# Altium schematic symbol library UltraZohm_ADC.SCHLIB: 27 symbols
Pins are listed as number, name and electrical type; pins without a type are passive.

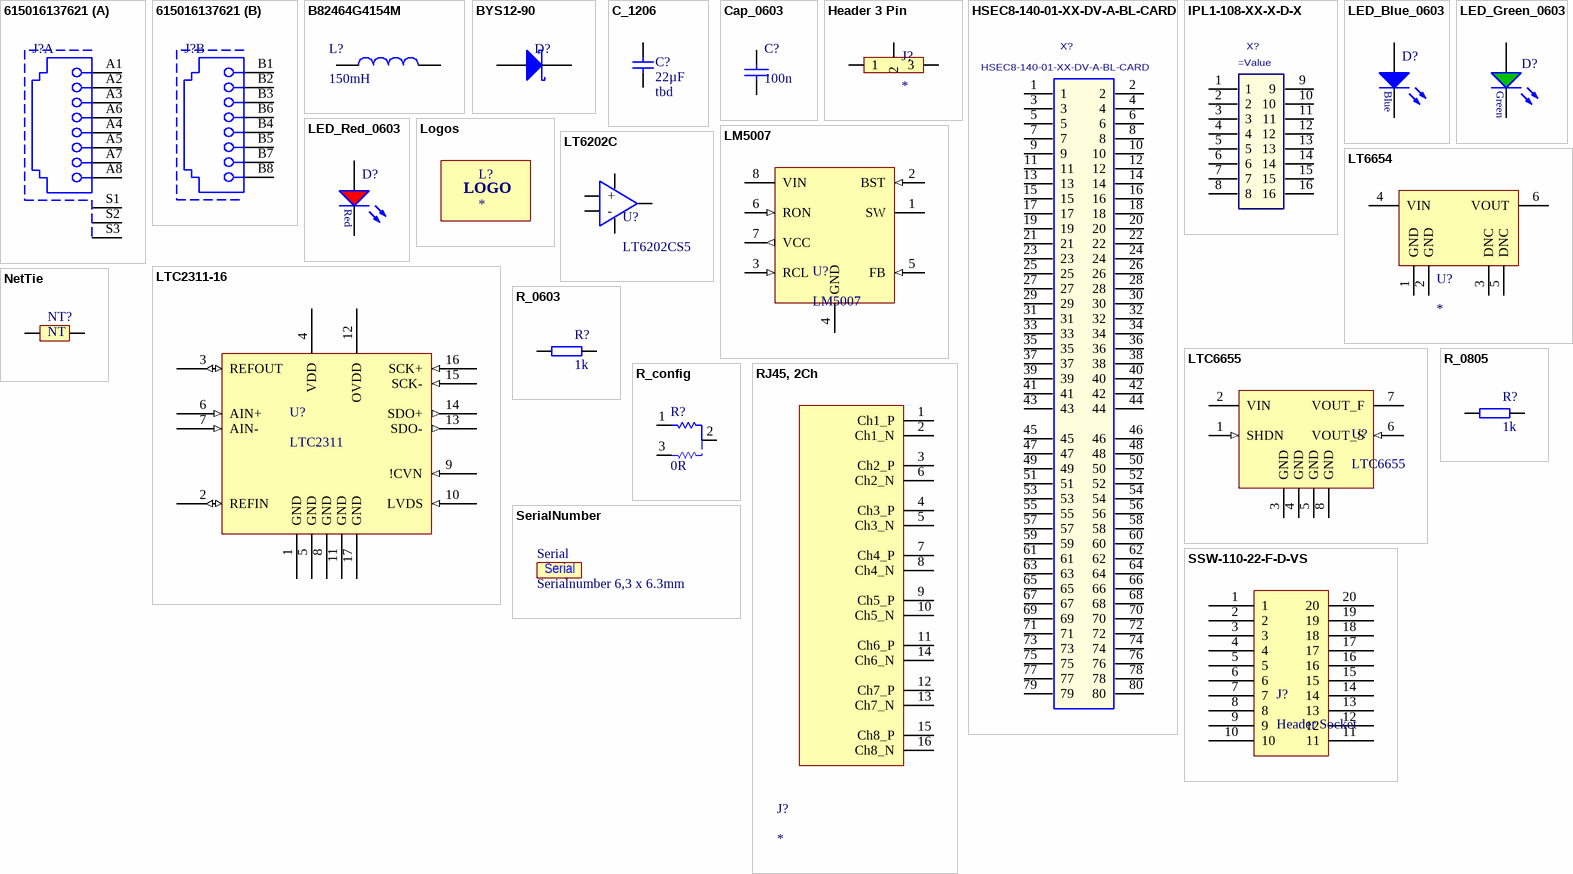
[diagram p0: symbols 615016137621 to SSW-110-22-F-D-VS]

## 615016137621
designator J?
Modular Jack WR-MJ, Tab Down, Shielded, Dual Port, Horizontal Entry, THT, 8P8C; MPN: 615016137621; MF: Wurth Elektronik; Port: 1x2; Compliance: Lead free / RoHS; Rated Current: 1.5 A; Working Voltage: 120 VAC; Withstanding Voltage: 1000 VAC; Contact Resistance: 20 mOhm; ComponentLink1Description: Manufacturer; ComponentLink1URL: http://www.we-online.de; ComponentLink2Description: Datasheet; ComponentLink2URL: https://katalog.we-online.de/em/datasheet/615016137621.pdf; Published Date: July 2018; Pin Number: 8P8C; Operating Temperature: -40 to 85 degC; Mounting Technology: THT; Packaging: Tray; Entrance: Horizontal; Supplier 1: Farnell; Supplier 2: Mouser; Supplier 3: Digi-Key; Supplier Part Number 1: 1841174; Supplier Part Number 2: 710-615016137621; Supplier Part Number 3: 732-2744-ND
footprint 615016137621 (Modular Jack Horizontal Shielded Dual Port 8P8C Tab Down)
part A pins: A1, A2, A3, A4, A5, A6, A7, A8, S1, S2, S3
part B pins: B1, B2, B3, B4, B5, B6, B7, B8

## B82464G4154M
designator L?, comment 150mH
SMT power Inductor, 150uH, 320m DRC; MPN: B82464G4154M; MF: EPCOS / TDK; Rated Current: 0.85 A; Supplier 1: Mouser; Supplier Part Number 1: 871-B82464G4154M; Value: 150mH; DCR: 320m
footprint SMT_inductor_1050_Performance (SMD Shielded Power Inductor, 2-leads, body 10.3x10.5mm)
pins: 1, 2

## BYS12-90
designator D?
Schottky Diode; MPN: BYS12-90-E3/TR3; MF: Vishay; Forward Voltage: 750mV; Reverse Voltage: 90V; Rated Current: 1.5A; Package: DO-214AC; Supplier 1: Farnell; Supplier 2: Mouser; Supplier 3: Digi-Key; Supplier Part Number 1: 2889144; Supplier Part Number 2: 625-BYS12-90-E3/TR3; Supplier Part Number 3: BYS12-90-E3/GICT-ND
footprint DIOM4227X23N (Molded Diode, 2-Leads, Body 4,25x2,67mm, IPC Medium Density)
pins: 1 K, 2 A

## C_1206
designator C?, comment 22µF  Voltage: tbd
Capacitor 1206; Tolerance: 10%; Package: 1206; Value: 22µF; Created: 2018_06_25_AGeiger; Supplier 1: tbd; Supplier Part Number 1: tbd; MF: tbd; MPN: tbd; Dielectric: tbd
footprint C_1206
pins: 1, 2

## Cap_0603
designator C?, comment 100n
Value: 100n; MF: *; MPN: *; Supplier 1: *; Supplier 2: *; Supplier Part Number 1: *; Supplier Part Number 2: *; Voltage: *
footprint CAPC1608X07N (Chip Capacitor, 2-Leads, Body 1,60x0,80mm, IPC Medium Density)
pins: 1, 2

## Header 3 Pin
designator J?
footprint Header 3 Pin
pins: 1, 2, 3

## HSEC8-140-01-XX-DV-A-BL-CARD
designator X?
Mating Card Layout for HSEC8-140-01-XX-DV-A-BL; Manufacturer: SAMTEC; Created: 2018_04_23_AGeiger; Value: HSEC8-140-01-XX-DV-A-BL-CARD
footprint HSEC8-140-01-XX-DV-A-BL-CARD
pins: 1, 2, 3, 4, 5, 6, 7, 8, 9, 10, 11, 12, 13, 14, 15, 16, 17, 18, 19, 20, 21, 22, 23, 24, 25, 26, 27, 28, 29, 30, 31, 32, 33, 34, 35, 36, 37, 38, 39, 40, 41, 42, 43, 44, 45, 46, 47, 48, 49, 50, 51, 52, 53, 54, 55, 56, 57, 58, 59, 60, 61, 62, 63, 64, 65, 66, 67, 68, 69, 70, 71, 72, 73, 74, 75, 76, 77, 78, 79, 80

## IPL1-108-XX-X-D-X
designator X?
2.54mm Double Row Terminal Assembly; MF: SAMTEC; Created: 2018_09_17_AGeiger; Value: =MPN
footprint IPL1-108-01-L-D-RA-K
pins: 1, 2, 3, 4, 5, 6, 7, 8, 9, 10, 11, 12, 13, 14, 15, 16

## LED_Blue_0603
designator D?, comment 150060BS75000  (value not drawn)
WL-SMCW SMD Mono-color Chip LED Waterclear, size 0603, Blue, 3.2 V, 140°; Forward Voltage: 3.2 V; Luminous Intensity: 145 mcd; Peak Wavelength: 465 nm; Dominant Wavelength: 470 nm; MF: Wuerth Elektronik; Published Date: Sep. 2017; ComponentLink1Description: Manufacturer; ComponentLink1URL: http://www.we-online.de; ComponentLink2Description: Datasheet; ComponentLink2URL: http://katalog.we-online.com/led/datasheet/150060BS75000.pdf; MPN: 150060BS75000; Size: 0603; Viewing Angle: 140°; Emitting Color: Blue; Value: 150060BS75000; Package: 0603; Created: 2018_09_06_AGeiger; Supplier 1: Farnell; Supplier Part Number 1: 2322069; Supplier 2: Mouser; Supplier Part Number 2: 710-150060BS75000; Supplier 3: Digi-Key; Supplier Part Number 3: 732-4966-1-ND
footprint WL-SMCW_0603 (SMD Mono-color Chip LED, body 1.6x0.8mm)
pins: 1 K, 2 A

## LED_Green_0603
designator D?, comment 150060GS75000  (value not drawn)
WL-SMCW SMD Mono-color Chip LED Waterclear, size 0603, Green, 3.2 V, 140°; Forward Voltage: 3.2 V; Luminous Intensity: 430 mcd; Peak Wavelength: 515 nm; Dominant Wavelength: 520 nm; MF: Wuerth Elektronik; Published Date: Sep. 2017; ComponentLink1Description: Manufacturer; ComponentLink1URL: http://www.we-online.de; ComponentLink2Description: Datasheet; ComponentLink2URL: http://katalog.we-online.com/led/datasheet/150060GS75000.pdf; MPN: 150060GS75000; Size: 0603; Viewing Angle: 140°; Emitting Color: Green; Value: 150060GS75000; Package: 0603; Created: 2018_09_06_AGeiger; Supplier 1: Farnell; Supplier Part Number 1: 2322070; Supplier 2: Mouser; Supplier Part Number 2: 710-150060GS75000; Supplier 3: Digi-Key; Supplier Part Number 3: 732-4971-1-ND
footprint WL-SMCW_0603 (SMD Mono-color Chip LED, body 1.6x0.8mm)
pins: 1 K, 2 A

## LED_Red_0603
designator D?, comment 150060RS75000  (value not drawn)
WL-SMCW SMD Mono-color Chip LED Waterclear, size 0603, Red, 2 V, 140°; Forward Voltage: 2 V; Luminous Intensity: 250 mcd; Peak Wavelength: 630 nm; Dominant Wavelength: 625 nm; MF: Wuerth Elektronik; Published Date: Sep. 2017; ComponentLink1Description: Manufacturer; ComponentLink1URL: http://www.we-online.de; ComponentLink2Description: Datasheet; ComponentLink2URL: http://katalog.we-online.com/led/datasheet/150060RS75000.pdf; MPN: 150060RS75000; Size: 0603; Viewing Angle: 140°; Emitting Color: Red; Value: 150060RS75000; Package: 0603; Created: 2018_09_06_AGeiger; Supplier 1: Farnell; Supplier Part Number 1: 2322071; Supplier 2: Mouser; Supplier Part Number 2: 710-150060RS75000; Supplier 3: Digi-Key; Supplier Part Number 3: 732-4978-1-ND
footprint WL-SMCW_0603 (SMD Mono-color Chip LED, body 1.6x0.8mm)
pins: 1 K, 2 A

## LM5007
designator U?
Buck Converter, 9-75Vin, 2.5-73Vout; MPN: LM5007MM/NOPB; MF: Texas Instruments; Supplier 1: Farnell; Supplier 2: Mouser; Supplier 3: Digi-Key; Supplier Part Number 1: 9779345; Supplier Part Number 2: 926-LM5007MM/NOPB; Supplier Part Number 3: LM5007MM/NOPBCT-ND; Package: VSSOP-8
footprint TSOP65P490X110-8N (TSOP, 8-Leads, Body 3,00x3,00mm, Pitch 0,65mm, IPC Medium Density)
pins: 1 SW (power), 2 BST (in), 3 RCL (in), 4 GND (power), 5 FB (in), 6 RON (in), 7 VCC (out), 8 VIN (power)

## Logos
designator L?
footprint Logo_Partners_1 (THN, TUM and USACH Logo)
footprint Logo_Partners_2 (USACH, THN and TUM Logo)
text: LOGO

## LT6202C
designator U?, comment LT6202CS5
Single Ch, 100MHz, Low Power OpAmp; MPN: LT6202CS5#TRMPBF; MF: Linear Technology/Analog Devices; Value: *; Supplier 1: Mouser; Supplier 2: Digi-Key; Supplier Part Number 1: 584-LT6202CS5#TRMPBF; Supplier Part Number 2: LT6202CS5#TRMPBFCT-ND; Package: SOT-5
footprint SOT95P250X110-5N (SOT23, 5-Leads, Body 2,92x2,50mm, Pitch 0,95mm, IPC Medium Density)
pins: 1, 2, 3 +, 4 -, 5

## LT6654
designator U?
MPN: LT6654AIS6-5#TRMPBF; MF: Analog Devices; Package: TSOT-23-6; Supplier 1: Farnell; Supplier 2: Mouser; Supplier 3: Digi-Key; Supplier Part Number 1: 2761960; Supplier Part Number 2: 584-6654AIS65TRMPBF; Supplier Part Number 3: LT6654AIS6-5#TRMPBFCT-ND
footprint SOT95P280X100-6N (SOT23, 6-Leads, Body 2,90x2,80mm, Pitch 0,95mm, IPC Medium Density)
pins: 1 GND (power), 2 GND (power), 3 DNC, 4 VIN (power), 5 DNC, 6 VOUT (power)

## LTC2311-16
designator U?, comment LTC2311
16 Bit SAR ADC, 5MSps; MPN: LTC2311CMSE-16#PBF; MF: Analog Devices; Package: MSOP-16; Supplier 1: Mouser; Supplier 2: Digi-Key; Supplier Part Number 1: 584-C2311CMSE-16PBF; Supplier Part Number 2: LTC2311CMSE-16#PBF-ND
footprint LTC2311-16
pins: 1 GND (power), 2 REFIN (io), 3 REFOUT (io), 4 VDD (power), 5 GND (power), 6 AIN+ (in), 7 AIN- (in), 8 GND (power), 9 !CVN (in), 10 LVDS (in), 11 GND (power), 12 OVDD (power), 13 SDO- (out), 14 SDO+ (out), 15 SCK- (in), 16 SCK+ (in), 17 GND (power)

## LTC6655
designator U?
Precision Reference, 1.25/2/2.5/3/3.3/4/5V
footprint TSOP65P490X110-8N (TSOP, 8-Leads, Body 3,00x3,00mm, Pitch 0,65mm, IPC Medium Density)
pins: 1 SHDN (in), 2 VIN (power), 3 GND (power), 4 GND (power), 5 GND (power), 6 VOUT_S (in), 7 VOUT_F (power), 8 GND (power)

## NetTie
designator NT?  (net tie, no BOM)
footprint NetTie
pins: 1, 2
text: NT

## R_0603
designator R?, comment 1k
Value: 1k; MF: *; MPN: *; Supplier 1: *; Supplier Part Number 1: *
footprint RESC1608X06N (Chip Resistor, 2-Leads, Body 1,60x0,80mm, IPC Medium Density)
pins: 1, 2

## R_0805
designator R?, comment 1k
Case_EIA: 0805; Value: 1k
footprint RESC0805 (Chip Resistor, 2-Leads, Body 2,00x1,25mm, IPC Medium Density)
pins: 1, 2

## R_config
designator R?, comment 0R
Solder resistor/jumper between pads 1 and 2 for standard function. Solder resistor between pads 2 and 3 for alternative function; Created: 2018_09_04_AGeiger; Value: 0R; Package: 0603
footprint 0603_Config (0603 3-Pin Config Footprint)
pins: 1, 2, 3

## RJ45, 2Ch
designator J?
footprint RJ45, 2CH
pins: 1 Ch1_P, 2 Ch1_N, 3 Ch2_P, 4 Ch3_P, 5 Ch3_N, 6 Ch2_N, 7 Ch4_P, 8 Ch4_N, 9 Ch5_P, 10 Ch5_N, 11 Ch6_P, 12 Ch7_P, 13 Ch7_N, 14 Ch6_N, 15 Ch8_P, 16 Ch8_N

## SerialNumber
designator Serial, comment Serialnumber 6,3 x 6.3mm  (no BOM)
Created: 2018_09_18_AGeiger; Value: Serialnumber 6,3 x 6.3mm
footprint Serial_6.3x6.3mm

## SSW-110-22-F-D-VS
designator J?, comment Header Socket
2 rows, 10 pins, 2.54mm spacing
footprint SSW-110-22-F-D-VS
pins: 1, 2, 3, 4, 5, 6, 7, 8, 9, 10, 11, 12, 13, 14, 15, 16, 17, 18, 19, 20

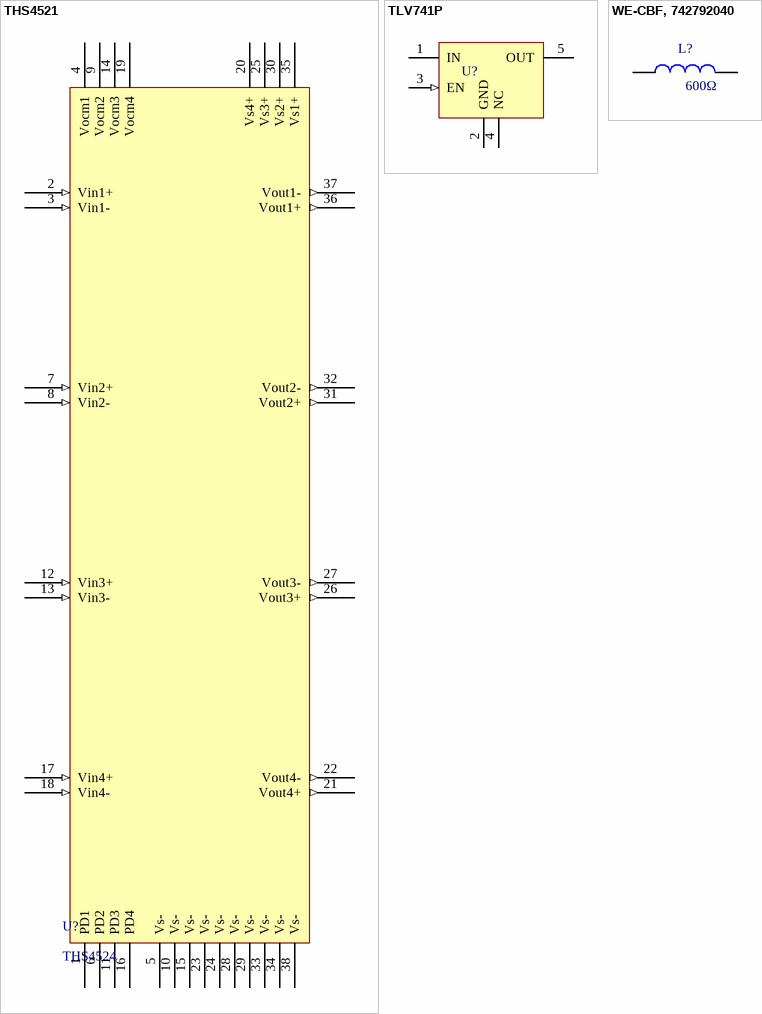
[diagram p1: symbols THS4521 to WE-CBF, 742792040]

## THS4521
designator U?, comment THS4524
MPN: THS4524IDBTR; MF: Texas Instruments; Package: TSSOP-38; Supplier 1: Farnell; Supplier 2: Mouser; Supplier 3: Digi-Key; Supplier Part Number 1: 2496350; Supplier Part Number 2: 595-THS4524IDBTR; Supplier Part Number 3: 296-24315-1-ND
footprint THS4524 Footprint (THS4524 4Ch Dif Amp, TSSOP)
pins: 1 PD1 "Power Down Ch1", 2 Vin1+ (in) "Input Ch1", 3 Vin1- (in) "Inv Input Ch1", 4 Vocm1 (power) "Ch1 Common-mode", 5 Vs- (power) "Negative Source", 6 PD2 "Power Down Ch2", 7 Vin2+ (in) "Input Ch2", 8 Vin2- (in) "Inv Input Ch2", 9 Vocm2 (power) "Ch2 Common-mode", 10 Vs- (power) "Negative Source", 11 PD3 "Power Down Ch3", 12 Vin3+ (in) "Input Ch3", 13 Vin3- (in) "Inv Input Ch3", 14 Vocm3 (power) "Ch3 Common-mode", 15 Vs- (power) "Negative Source", 16 PD4 "Power Down Ch4", 17 Vin4+ (in) "Input Ch4", 18 Vin4- (in) "Inv Input Ch4", 19 Vocm4 (power) "Ch4 Common-mode", 20 Vs4+ (power) "Ch4 Source", 21 Vout4+ (out) "Ch4 Noninv Output", 22 Vout4- (out) "Ch4 Inv Output", 23 Vs- (power) "Negative Source", 24 Vs- (power) "Negative Source", 25 Vs3+ (power) "Ch3 Source", 26 Vout3+ (out) "Ch3 Noninv Output", 27 Vout3- (out) "Ch3 Inv Output", 28 Vs- (power) "Negative Source", 29 Vs- (power) "Negative Source", 30 Vs2+ (power) "Ch2 Source", 31 Vout2+ (out) "Ch2 Noninv Output", 32 Vout2- (out) "Ch2 Inv Output", 33 Vs- (power) "Negative Source", 34 Vs- (power) "Negative Source", 35 Vs1+ (power) "Ch1 Source", 36 Vout1+ (out) "Ch1 Noninv Output", 37 Vout1- (out) "Ch1 Inv Output", 38 Vs- (power) "Negative Source"

## TLV741P
designator U?
150mA, 2.5V LDO; MPN: TLV74125PDBVR; MF: Texas Instruments; Supplier 1: Mouser; Supplier 2: Digi-Key; Supplier Part Number 1: 595-TLV74125PDBVR; Supplier Part Number 2: 296-49999-1-ND; Package: SOT-23-5
footprint SOT95P250X110-5N (SOT23, 5-Leads, Body 2,92x2,50mm, Pitch 0,95mm, IPC Medium Density)
pins: 1 IN (power), 2 GND (power), 3 EN (in), 4 NC, 5 OUT (power)

## WE-CBF, 742792040
designator L?, comment 600Ω
WE-CBF SMD EMI Suppression Ferrite Bead, 0805, 600Ω; MPN: 742792040; MF: Wurth Elektronik; Type: High Current; PublishedDate: Aug 2016; ComponentLink1Description: Manufacturer; ComponentLink1URL: http://www.we-online.de; ComponentLink2Description: Datasheet; ComponentLink2URL: http://katalog.we-online.de/pbs/datasheet/742792040.pdf; Value: 600Ω; Size: 0805; Supplier 1: Farnell; Supplier 2: Mouser; Supplier 3: Digi-Key; Supplier Part Number 1: 2761567; Supplier Part Number 2: 710-742792040; Supplier Part Number 3: 732-1620-1-ND
footprint WE-CBF_0805_High Current (SMD EMI Suppression Ferrite  Bead, body 2.0mmx1.2mm)
pins: 1, 2